# Altium footprint library BOURNS_SRU1063.PcbLib: 1 footprints
Each footprint in its own frame and in the unit in brackets; x right, y up, seen from the top. Pads: shape width x height; smd on the part's side, far side on the other; paste and mask are expansions set on the pad; w line width, h text height; cw(c..) or ccw(c..) is an arc to the next point about the centre after c.
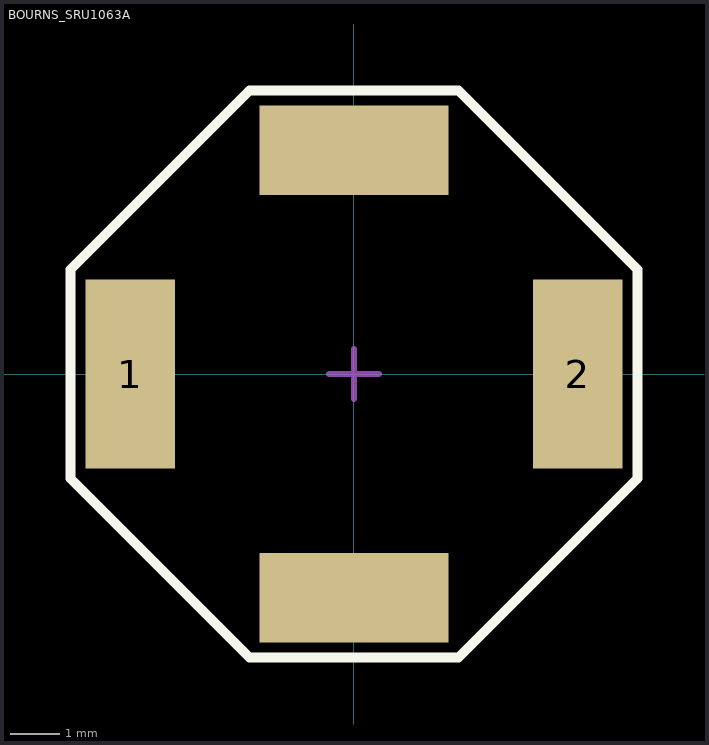
[diagram p0: the footprint, top view; thin cyan lines are the x and y axes]

## BOURNS_SRU1063A [mm]
pads (4):
  rect 1.8x3.8 smd: 1(-4.5,0) 2(4.5,0)
  rect 3.8x1.8 smd: ""(0,-4.5) ""(0,4.5)
Top Overlay:
  lines w0.2: -5.7,-2.1 -2.1,-5.7 2.1,-5.7 5.7,-2.1 5.7,2.1 2.1,5.7 -2.1,5.7 -5.7,2.1 -5.7,-2.1
  text "." at -5.791,2.718 h0.18
Mechanical 15:
  lines w0.127: -0.5,0 0.5,0 ; 0,-0.5 0,0.5
3D body: height 6.35, standoff -0.15, extent -5.004,-5.004 5.004,5.004